# Altium footprint library Isoation.PcbLib: 5 footprints
Each footprint in its own frame and in the unit in brackets; x right, y up, seen from the top. Pads: shape width x height; smd on the part's side, far side on the other; paste and mask are expansions set on the pad; w line width, h text height; cw(c..) or ccw(c..) is an arc to the next point about the centre after c.
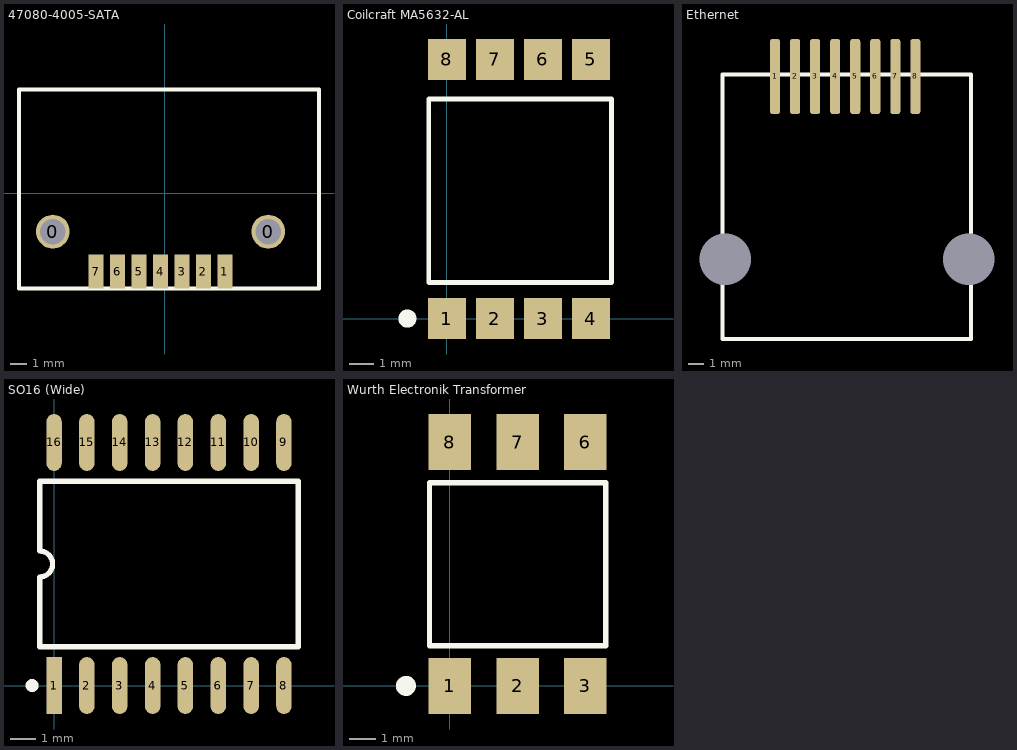
[diagram p0: the footprints below, top view; thin cyan lines are the x and y axes]

## 47080-4005-SATA [mm]
pads (9):
  round 2 hole 1.5: 0(-6.612,-2.257) 0(6.128,-2.257)
  rect 0.9x2 smd: 1(3.568,-4.617) 2(2.298,-4.617) 3(1.028,-4.617) 4(-0.242,-4.617) 5(-1.512,-4.617) 6(-2.782,-4.617) 7(-4.052,-4.617)
Top Overlay:
  lines w0.254: -8.612,-5.617 -8.612,6.143 9.128,6.143 9.128,-5.617 -8.612,-5.617

## Coilcraft MA5632-AL [mm]
pads (8):
  rect 1.6x1.7 smd: 1(0,0) 2(2,0) 3(4,0) 4(6,0) 5(6,10.8) 6(4,10.8) 7(2,10.8) 8(0,10.8)
Top Overlay:
  circle w0.5: c-1.649,0 r0.125
  lines w0.2: -0.762,1.5 -0.762,9.144 6.858,9.144 6.858,1.5 -0.762,1.5

## Ethernet [mm] "Ethernet connector"
pads (10):
  rrect50% 0.64x4.75 smd: 1(-1206.456,-1217.438) 2(-1205.186,-1217.438) 3(-1203.916,-1217.438) 4(-1202.646,-1217.438) 5(-1201.376,-1217.438) 6(-1200.106,-1217.438) 7(-1198.836,-1217.438) 8(-1197.566,-1217.438)
  round 0 hole 3.251: ""(-1209.616,-1229.008) ""(-1194.176,-1229.008)
Top Overlay:
  lines w0.254: -1209.786,-1234.068 -1194.046,-1234.068 -1194.046,-1217.308 -1209.786,-1217.308 -1209.786,-1234.068

## SO16 (Wide) [mm]
pads (16):
  rect 0.6x2.2 smd: 1(0,0)
  oval 0.6x2.2 smd: 2(1.27,0) 3(2.54,0) 4(3.81,0) 5(5.08,0) 6(6.35,0) 7(7.62,0) 8(8.89,0) 9(8.89,9.4) 10(7.62,9.4) 11(6.35,9.4) 12(5.08,9.4) 13(3.81,9.4) 14(2.54,9.4) 15(1.27,9.4) 16(0,9.4)
Top Overlay:
  circle w0.25: c-0.85,0 r0.125
  lines w0.2: -0.555,1.5 9.445,1.5 9.445,7.9 -0.555,7.9 -0.555,5.2 cw(c-0.555,4.7) -0.555,4.2 -0.555,1.5

## Wurth Electronik Transformer [mil]
pads (6):
  rect 62.99x83 smd: 1(0,0) 2(100,0) 3(200,0) 6(200,360) 7(100,360) 8(0,360)
Top Overlay:
  circle w19.68: c-64.92,0 r4.92
  lines w7.87: -30,59.06 -30,300 230,300 230,59.06 -30,59.06